# Altium footprint library Nimb_Ring_2_0.PcbLib: 49 footprints (part 1 of 4)
Each footprint in its own frame and in the unit in brackets; x right, y up, seen from the top. Pads: shape width x height; smd on the part's side, far side on the other; paste and mask are expansions set on the pad; w line width, h text height; cw(c..) or ccw(c..) is an arc to the next point about the centre after c.
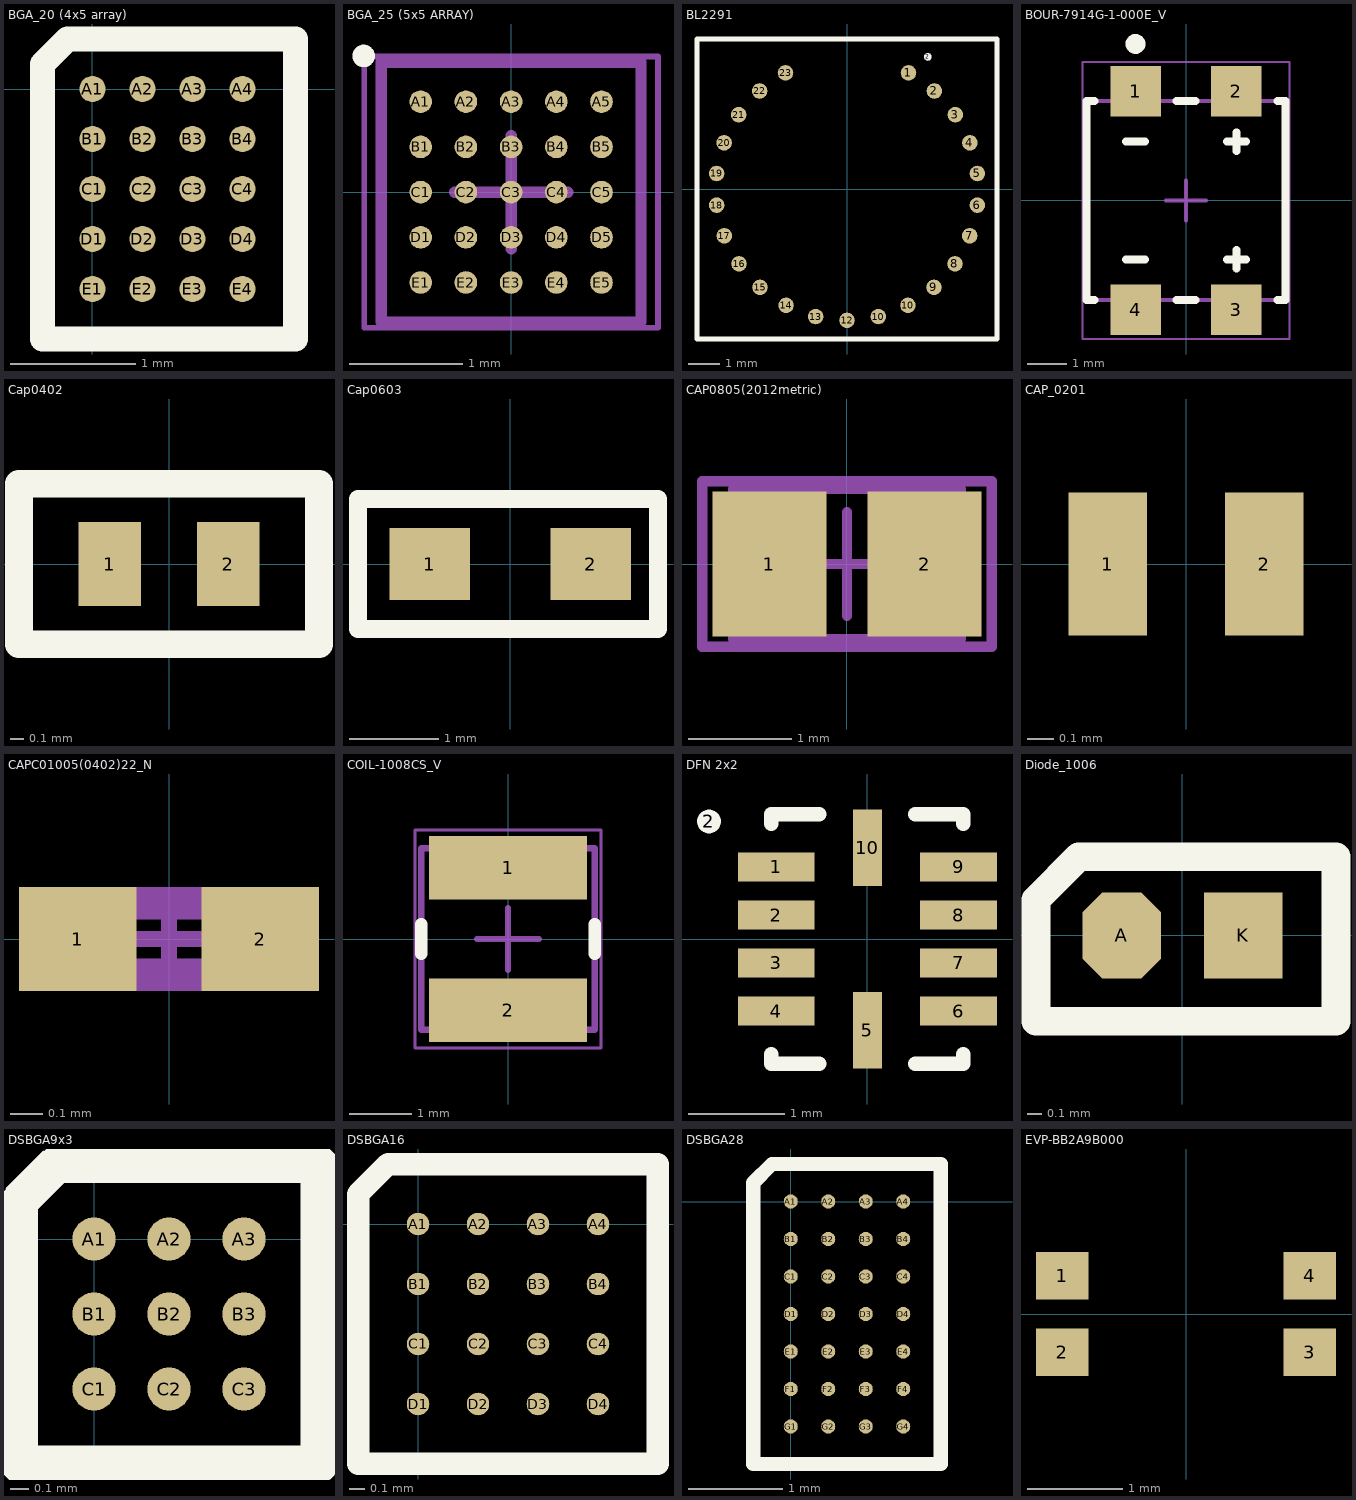
[diagram p0: the footprints below, top view; thin cyan lines are the x and y axes]

## BGA_20 (4x5 array) [mm]
pads (20):
  round 0.21 smd: A1(0,0) A2(0.4,0) A3(0.8,0) A4(1.2,0) B1(0,-0.4) B2(0.4,-0.4) B3(0.8,-0.4) B4(1.2,-0.4) C1(0,-0.8) C2(0.4,-0.8) C3(0.8,-0.8) C4(1.2,-0.8) D1(0,-1.2) D2(0.4,-1.2) D3(0.8,-1.2) D4(1.2,-1.2) E1(0,-1.6) E2(0.4,-1.6) E3(0.8,-1.6) E4(1.2,-1.6)
Top Overlay:
  lines w0.2: -0.4,-2 1.625,-2 1.625,0.4 -0.2,0.4 -0.4,0.2 -0.4,-2
3D body: height 0.53, standoff 0, extent -0.35,-1.95 1.55,0.35

## BGA_25 (5x5 ARRAY) [mm] "BGA, 25-Leads, Body 2.2x2.4mm, Pitch 0.4mm"
height 0.63
pads (25):
  round 0.2 smd: A1(-0.8,0.8) A2(-0.4,0.8) A3(0,0.8) A4(0.4,0.8) A5(0.8,0.8) B1(-0.8,0.4) B2(-0.4,0.4) B3(0,0.4) B4(0.4,0.4) B5(0.8,0.4) C1(-0.8,0) C2(-0.4,0) C3(0,0) C4(0.4,0) C5(0.8,0) D1(-0.8,-0.4) D2(-0.4,-0.4) D3(0,-0.4) D4(0.4,-0.4) D5(0.8,-0.4) E1(-0.8,-0.8) E2(-0.4,-0.8) E3(0,-0.8) E4(0.4,-0.8) E5(0.8,-0.8)
Top Overlay:
  circle w0.1: c-1.305,1.205 r0.05
Mechanical 13:
  lines w0.1: -1.15,-1.15 -1.15,1.15 1.15,1.15 1.15,-1.15 -1.15,-1.15
Mechanical 15:
  lines w0.05: -1.3,-1.2 -1.3,1.2 1.3,1.2 1.3,-1.2 -1.3,-1.2
  lines w0.1: -0.5,0 0.5,0 ; 0,-0.5 0,0.5
3D body: height 0.63, standoff 0.12, extent -1.15,-1.15 1.15,1.15

## BL2291 [mm] "9.65mm x 9.65mm fingerprint"
height 0.75
pads (24):
  round 0.5 smd: 1(1.978,3.733) 2(2.813,3.153) 3(3.485,2.389) 4(3.955,1.487) 5(4.195,0.499) 6(4.193,-0.518) 7(3.948,-1.505) 8(3.474,-2.405) 9(2.798,-3.165) 10(1.01,-4.103) 10(1.961,-3.742) 12(0,-4.225) 13(-1.01,-4.103) 14(-1.961,-3.742) 15(-2.798,-3.165) 16(-3.474,-2.405) 17(-3.948,-1.505) 18(-4.193,-0.518) 19(-4.195,0.499) 20(-3.955,1.487) 21(-3.485,2.389) 22(-2.813,3.153) 23(-1.978,3.733)
  round 0.25 on Top Overlay: 2(2.6,4.25)
Top Overlay:
  lines w0.05: -1.978,-4.822 -1.975,-4.825 ; 1.975,-4.825 1.978,-4.822
  lines w0.15: -4.825,-4.825 4.825,-4.825 4.825,4.825 -4.825,4.825 -4.825,-4.825
3D body: height 0.7, standoff 0, extent -4.8,-4.825 4.75,4.725

## BOUR-7914G-1-000E_V [mm] "SMD, 4-Leads, Body 5x5mm, Height 4.49mm"
height 4.49
pads (4):
  rect 1.27x1.27 smd: 1(-1.27,2.75) 2(1.27,2.75) 3(1.27,-2.75) 4(-1.27,-2.75)
Top Overlay:
  circle w0.25: c-1.27,3.935 r0.125
  lines w0.2: -2.305,-2.5 -2.5,-2.5 -2.5,2.5 -2.305,2.5 ; -1.505,-1.48 -1.035,-1.48 ; -1.505,1.48 -1.035,1.48 ; -0.235,-2.5 0.235,-2.5 ; -0.235,2.5 0.235,2.5 ; 1.035,-1.48 1.505,-1.48 ; 1.035,1.48 1.505,1.48 ; 1.27,-1.715 1.27,-1.245 ; 1.27,1.245 1.27,1.715 ; 2.305,-2.5 2.5,-2.5 2.5,2.5 2.305,2.5
Mechanical 13:
  lines w0.1: -2.5,-2.5 -2.5,2.5 2.5,2.5 2.5,-2.5 -2.5,-2.5
Mechanical 15:
  lines w0.05: -2.6,-3.485 2.6,-3.485 2.6,3.485 -2.6,3.485 -2.6,-3.485
  lines w0.1: -0.5,0 0.5,0 ; 0,-0.5 0,0.5
3D body "7914G-1-000.stp": height 4.11, standoff 0, extent -2.502,-3.098 2.502,3.099

## Cap0402 [mm]
pads (2):
  rect 0.45x0.6 smd: 1(-0.425,0) 2(0.425,0)
Top Overlay:
  lines w0.2: -1.075,-0.575 1.075,-0.575 1.075,0.575 -1.075,0.575 -1.075,-0.575
3D body: height 0.5, standoff 0, extent -0.5,-0.25 0.5,0.25

## Cap0603 [mm]
pads (2):
  rect 0.9x0.8 smd: 1(-0.9,0) 2(0.9,0)
Top Overlay:
  lines w0.2: -1.7,-0.725 -1.7,0.725 1.65,0.725 1.65,-0.725 -1.7,-0.725
3D body: height 0.5, standoff 0, extent -0.8,-0.4 0.8,0.4

## CAP0805(2012metric) [mm] "Chip Capacitor, Body 2.0x1.3mm, IPC High Density"
height 1.1
pads (2):
  rect 1.1x1.4 smd: 1(-0.75,0) 2(0.75,0)
Mechanical 13:
  lines w0.1: -1.1,-0.725 1.1,-0.725 1.1,0.725 -1.1,0.725 -1.1,-0.725
Mechanical 15:
  lines w0.1: -0.5,0 0.5,0 ; 0,-0.5 0,0.5 ; -1.4,-0.8 1.4,-0.8 1.4,0.8 -1.4,0.8 -1.4,-0.8
3D body: height 1.1, standoff 0, extent -1.1,-0.725 1.1,0.725

## CAP_0201 [mm] "Ceramic capacitor"
height 0.33
pads (2):
  rect 0.3x0.55 smd: 1(-0.3,0) 2(0.3,0)
3D body: height 0.25, standoff 0, extent -0.3,-0.15 0.3,0.15

## CAPC01005(0402)22_N [mm] "Chip Capacitor, Body 0.4x0.2mm, Height 0.22mm, IPC Medium Density"
height 0.22
pads (2):
  rect 0.36x0.32 smd: 1(-0.28,0) 2(0.28,0)
Mechanical 13:
  lines w0.1: -0.21,-0.11 -0.21,0.11 0.21,0.11 0.21,-0.11 -0.21,-0.11
Mechanical 15:
  lines w0.05: -0.11,0 0.11,0 ; 0,-0.11 0,0.11
3D body: height 0.22, standoff 0, extent -0.11,-0.11 0.11,0.11
3D body: height 0.22, standoff 0, extent -0.21,-0.11 -0.11,0.11
3D body: height 0.22, standoff 0, extent 0.11,-0.11 0.21,0.11

## COIL-1008CS_V [mm] "SMD, 2-Leads, Body 2.92x2.79mm"
height 2.03
pads (2):
  rect 2.54x1.02 smd: 1(0,1.145) 2(0,-1.145)
Top Overlay:
  lines w0.2: -1.395,-0.235 -1.395,0.235 ; 1.395,-0.235 1.395,0.235
Mechanical 13:
  lines w0.1: -1.395,-1.46 1.395,-1.46 1.395,1.46 -1.395,1.46 -1.395,-1.46
Mechanical 15:
  lines w0.05: -1.495,-1.755 1.495,-1.755 1.495,1.755 -1.495,1.755 -1.495,-1.755
  lines w0.1: -0.5,0 0.5,0 ; 0,-0.5 0,0.5
3D body "User Library-1008CS.STEP": height 2.03, standoff 0, extent -1.395,-1.46 1.395,1.46

## DFN 2x2 [mm]
height 0.8
pads (11):
  rect 0.8x0.3 smd: 1(-0.95,0.75) 2(-0.95,0.25) 3(-0.95,-0.25) 4(-0.95,-0.75) 6(0.95,-0.75) 7(0.95,-0.25) 8(0.95,0.25) 9(0.95,0.75)
  round 0.25 on Top Overlay: 2(-1.65,1.225)
  rect 0.3x0.8 smd: 5(0,-0.95) 10(0,0.95)
Top Overlay:
  lines w0.15: -1,-1.2 -1,-1.3 -0.5,-1.3 ; -1,1.2 -1,1.3 -0.5,1.3 ; 0.5,-1.3 1,-1.3 1,-1.2 ; 0.5,1.3 1,1.3 1,1.2
3D body: height 0.65, standoff 0, extent -1,-1 1,1

## Diode_1006 [mm]
pads (2):
  oct 0.55x0.6 smd: A(-0.425,0)
  rect 0.55x0.6 smd: K(0.425,0)
Top Overlay:
  lines w0.2: -1.025,-0.6 1.075,-0.6 1.075,0.55 -0.725,0.55 -1.025,0.25 -1.025,-0.6
3D body: height 0.4, standoff 0, extent -0.5,-0.3 0.5,0.3

## DSBGA9x3 [mm]
pads (9):
  round 0.23 smd: A1(0,0) A2(0.4,0) A3(0.8,0) B1(0,-0.4) B2(0.4,-0.4) B3(0.8,-0.4) C1(0,-0.8) C2(0.4,-0.8) C3(0.8,-0.8)
Top Overlay:
  lines w0.2: -0.4,-1.2 1.2,-1.2 1.2,0.4 -0.2,0.4 -0.4,0.2 -0.4,-1.2
3D body: height 0.63, standoff 0, extent -0.275,-1.075 1.075,0.275

## DSBGA16 [mm] "1.58 x 1.58mm WCSP Package 0.4mm  pitch"
height 0.5
pads (16):
  round 0.15 smd: A1(0,0) A2(0.4,0) A3(0.8,0) A4(1.2,0) B1(0,-0.4) B2(0.4,-0.4) B3(0.8,-0.4) B4(1.2,-0.4) C1(0,-0.8) C2(0.4,-0.8) C3(0.8,-0.8) C4(1.2,-0.8) D1(0,-1.2) D2(0.4,-1.2) D3(0.8,-1.2) D4(1.2,-1.2)
Top Overlay:
  lines w0.15: -0.4,-1.6 1.6,-1.6 1.6,0.4 -0.2,0.4 -0.4,0.2 -0.4,-1.6
3D body: height 0.5, standoff 0.01, extent -0.2,-1.375 1.375,0.2

## DSBGA28 [mm]
pads (28):
  round 0.15 smd: A1(0,0) A2(0.4,0) A3(0.8,0) A4(1.2,0) B1(0,-0.4) B2(0.4,-0.4) B3(0.8,-0.4) B4(1.2,-0.4) C1(0,-0.8) C2(0.4,-0.8) C3(0.8,-0.8) C4(1.2,-0.8) D1(0,-1.2) D2(0.4,-1.2) D3(0.8,-1.2) D4(1.2,-1.2) E1(0,-1.6) E2(0.4,-1.6) E3(0.8,-1.6) E4(1.2,-1.6) F1(0,-2) F2(0.4,-2) F3(0.8,-2) F4(1.2,-2) G1(0,-2.4) G2(0.4,-2.4) G3(0.8,-2.4) G4(1.2,-2.4)
Top Overlay:
  lines w0.15: -0.4,-2.8 -0.4,0.2 -0.2,0.4 1.6,0.4 1.6,-2.8 -0.4,-2.8
3D body: height 0.45, standoff 0.01, extent -0.325,-2.7 1.575,0.3

## EVP-BB2A9B000 [mm] "3mm x 1.6mm button"
height 0.35
pads (4):
  rect 0.55x0.5 smd: 1(-1.3,0.4) 2(-1.3,-0.4) 3(1.3,-0.4) 4(1.3,0.4)
3D body "EVP-BB2A9B000_button.stp": height 0.57, standoff -0.01, extent -1.556,-0.811 1.544,0.789